# Altium schematic symbol library CSTNE8M00GH5C000R0.Schlib: 1 symbol
Pins are listed as number, name and electrical type; pins without a type are passive.

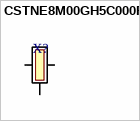
[diagram p0: symbol CSTNE8M00GH5C000R0]

## CSTNE8M00GH5C000R0
designator X?
Crystal
pins: 1, 2, 3